# Altium schematic symbol library Suppressor.SchLib: 1 symbol
Pins are listed as number, name and electrical type; pins without a type are passive.

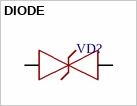
[diagram p0: symbol DIODE]

## DIODE
designator VD?
footprint DO201AB
footprint P6KE350CA
pins: 1 C, 2 A